# Altium schematic symbol library CAP 4700pF 50V.Schlib: 1 symbol
Pins are listed as number, name and electrical type; pins without a type are passive.

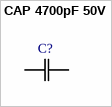
[diagram p0: symbol CAP 4700pF 50V]

## CAP 4700pF 50V
designator C?
CAP CER 4700PF 50V X7R 0603/0805
pins: 1 C1, 2 C2